# Altium schematic symbol library DiscreteSemiconductors.SchLib: 22 symbols (part 1 of 2)
Pins are listed as number, name and electrical type; pins without a type are passive.

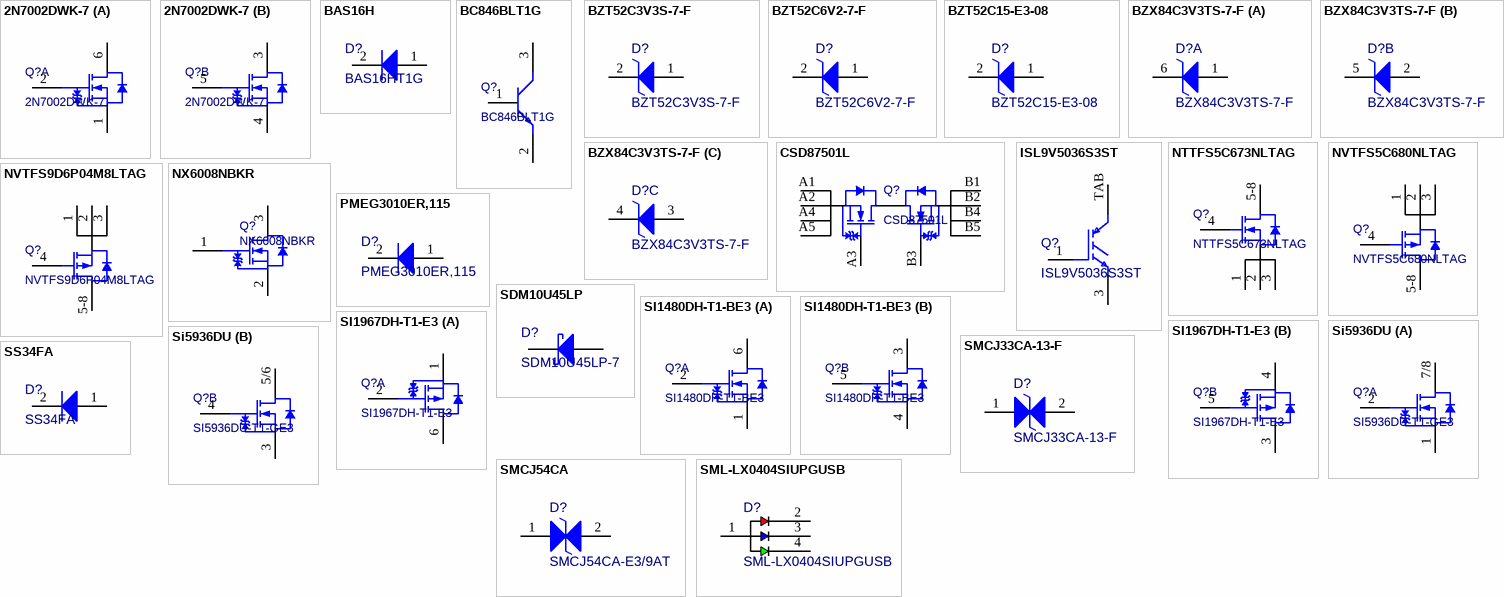
[diagram p0: symbols 2N7002DWK-7 to SS34FA]

## 2N7002DWK-7
designator Q?
MOSFET 2N-CH 60V 0.261A SOT363; Manufacturer: Diodes; Supplier: Digikey; Supplier Part Number: 31-2N7002DWK-7CT-ND; Manufacturer Part Number: 2N7002DWK-7; RoHS: No; Category: Uncategorized; Stock: 2664; Pricing: 1=0,21, 10=0,142, 100=0,0931, 500=0,07452, 1000=0,06584 (USD); Supplier 1: Digikey; Supplier Part Number 1: 31-2N7002DWK-7CT-ND
footprint SOT-363 (6 pin, 2x2.1mm)
part A pins: 1 S1, 2 G1, 6 D1
part B pins: 3 D2, 4 S2, 5 G2

## BAS16H
designator D?, comment BAS16HT1G
Diode, Rectifier, Switching, Vr 75VDC, If 200MA, Pkg SOD-323, Vf 1250MV, Trr 6NS, Cj 2PF; Manufacturer: onsemi; Manufacturer Lifecycle Status: ACTIVE; Breakdown Voltage: 75V; Element Configuration: Single; Forward Voltage: 715mV; Max Forward Surge Current (Ifsm): 500mA; Max Power Dissipation: 200mW; Max Repetitive Reverse Voltage (Vrrm): 85V; Max Reverse Leakage Current: 1µA; Max Reverse Voltage (DC): 100V; Max Surge Current: 600mA; Number of Elements: 1; Polarity: Standard; Supplier 1: DigiKey; Supplier Part Number 1: BAS16HT1GOSCT-ND; Supplier: DigiKey; Supplier Part Number: BAS16HT1GOSCT-ND; Manufacturer Part Number: BAS16HT1G; RoHS: Compliant; Category: Rectifier Diodes; Stock: 518468; Pricing: 1=0,1, 10=0,049, 100=0,0422, 500=0,03042, 1000=0,02655 (USD); Average Rectified Current: 200mA; Value: 2pF; China RoHS: Compliant; Contact Plating: Tin; Current Rating: 200mA; Forward Current: 200mA; Height: 900µm; Lead Free: Lead Free; Length: 1.7mm; Lifecycle Status: Production; Max Operating Temperature: 150°C; Max Output current: 200mA; Min Operating Temperature: -55°C; Mounting Technology: Surface Mount; Pins: 2; Number of Terminals: 2; Output Current: 200mA; Packaging: Tape and Reel; Peak Non-Repetitive Surge Current: 600mA; Peak Reverse Current: 1µA; Power Dissipation: 200mW; Radiation Hardening: No; REACH SVHC: No; Recovery Time: 6ns; Reverse Recovery Time: 6ns; Reverse Standoff Voltage: 85V; Reverse Voltage: 85V; Schedule B: 8541100070, 8541100070|8541100070|8541100070|8541100070|8541100070; Voltage Rating (DC): 75V; Weight: 33mg; Width: 1.25mm; ComponentLink1URL: https://datasheet.octopart.com:443/BAS16HT1G-ON-Semiconductor-datasheet-115937.pdf?src-supplier=element14+APAC; ComponentLink1Description: https://datasheet.octopart.com:443/BAS16HT1G-ON-Semiconductor-datasheet-115937.pdf?src-supplier=element14+APAC; ComponentLink2URL: https://datasheet.octopart.com:443/BAS16HT1G-ON-Semiconductor-datasheet-67293425.pdf?src-supplier=element14+APAC; ComponentLink2Description: https://datasheet.octopart.com:443/BAS16HT1G-ON-Semiconductor-datasheet-67293425.pdf?src-supplier=element14+APAC; ComponentLink3URL: https://datasheet.octopart.com:443/BAS16HT1G-ON-Semiconductor-datasheet-86781274.pdf?src-supplier=element14+APAC; ComponentLink3Description: https://datasheet.octopart.com:443/BAS16HT1G-ON-Semiconductor-datasheet-86781274.pdf?src-supplier=element14+APAC; ComponentLink4URL: https://datasheet.octopart.com:443/BAS16HT1G-onsemi-datasheet-180957826.pdf?src-supplier=IHS; ComponentLink4Description: https://datasheet.octopart.com:443/BAS16HT1G-onsemi-datasheet-180957826.pdf?src-supplier=IHS; ComponentLink5URL: https://datasheet.octopart.com:443/BAS16HT1G-ON-Semiconductor-datasheet-30892817.pdf?src-supplier=IHS; ComponentLink5Description: https://datasheet.octopart.com:443/BAS16HT1G-ON-Semiconductor-datasheet-30892817.pdf?src-supplier=IHS; ComponentLink6URL: https://datasheet.octopart.com:443/BAS16HT1G-ON-Semiconductor-datasheet-33006779.pdf?src-supplier=Upverter; ComponentLink6Description: https://datasheet.octopart.com:443/BAS16HT1G-ON-Semiconductor-datasheet-33006779.pdf?src-supplier=Upverter; ComponentLink7URL: https://datasheet.octopart.com:443/BAS16HT1G-ON-Semiconductor-datasheet-137916682.pdf?src-supplier=onsemi; ComponentLink7Description: https://datasheet.octopart.com:443/BAS16HT1G-ON-Semiconductor-datasheet-137916682.pdf?src-supplier=onsemi; ComponentLink8URL: https://datasheet.octopart.com:443/BAS16HT1G-ON-Semiconductor-datasheet-86688369.pdf?src-supplier=onsemi; ComponentLink8Description: https://datasheet.octopart.com:443/BAS16HT1G-ON-Semiconductor-datasheet-86688369.pdf?src-supplier=onsemi; ComponentLink9URL: https://datasheet.octopart.com:443/BAS16HT1G-onsemi-datasheet-181958668.pdf?src-supplier=Newark; ComponentLink9Description: https://datasheet.octopart.com:443/BAS16HT1G-onsemi-datasheet-181958668.pdf?src-supplier=Newark; ComponentLink10URL: https://datasheet.octopart.com:443/BAS16HT1G-Fairchild-Semiconductor-datasheet-67878755.pdf?src-supplier=Newark; ComponentLink10Description: https://datasheet.octopart.com:443/BAS16HT1G-Fairchild-Semiconductor-datasheet-67878755.pdf?src-supplier=Newark; ComponentLink11URL: https://datasheet.octopart.com:443/BAS16HT1G-Fairchild-Semiconductor-datasheet-67809726.pdf?src-supplier=Newark; ComponentLink11Description: https://datasheet.octopart.com:443/BAS16HT1G-Fairchild-Semiconductor-datasheet-67809726.pdf?src-supplier=Newark; ComponentLink12URL: https://datasheet.octopart.com:443/BAS16HT1G-Fairchild-Semiconductor-datasheet-68558646.pdf?src-supplier=Newark; ComponentLink12Description: https://datasheet.octopart.com:443/BAS16HT1G-Fairchild-Semiconductor-datasheet-68558646.pdf?src-supplier=Newark; ComponentLink13URL: https://datasheet.octopart.com:443/BAS16HT1G-Fairchild-Semiconductor-datasheet-5362264.pdf?src-supplier=Fairchild+Semiconductor; ComponentLink13Description: https://datasheet.octopart.com:443/BAS16HT1G-Fairchild-Semiconductor-datasheet-5362264.pdf?src-supplier=Fairchild+Semiconductor; ComponentLink14URL: https://sigma.octopart.com:443/17344476/technical_drawing/Fairchild-Semiconductor-BAS16HT1G.pdf?src-supplier=Fairchild+Semiconductor; ComponentLink14Description: https://sigma.octopart.com:443/17344476/technical_drawing/Fairchild-Semiconductor-BAS16HT1G.pdf?src-supplier=Fairchild+Semiconductor; ComponentLink15URL: https://datasheet.octopart.com:443/BAS16HT1G-onsemi-datasheet-21771981.pdf?src-supplier=Master+Electronics; ComponentLink15Description: https://datasheet.octopart.com:443/BAS16HT1G-onsemi-datasheet-21771981.pdf?src-supplier=Master+Electronics; ComponentLink16URL: https://datasheet.octopart.com:443/BAS16HT1G-ON-Semiconductor-datasheet-17590349.pdf?src-supplier=TME; ComponentLink16Description: https://datasheet.octopart.com:443/BAS16HT1G-ON-Semiconductor-datasheet-17590349.pdf?src-supplier=TME; ComponentLink17URL: https://datasheet.octopart.com:443/BAS16HT1G-ON-Semiconductor-datasheet-14053657.pdf?src-supplier=iiiC; ComponentLink17Description: https://datasheet.octopart.com:443/BAS16HT1G-ON-Semiconductor-datasheet-14053657.pdf?src-supplier=iiiC; ComponentLink18URL: https://datasheet.octopart.com:443/BAS16HT1G-ON-Semiconductor-datasheet-9788525.pdf?src-supplier=RS+(Formerly+Allied+Electronics); ComponentLink18Description: https://datasheet.octopart.com:443/BAS16HT1G-ON-Semiconductor-datasheet-9788525.pdf?src-supplier=RS+(Formerly+Allied+Electronics); ComponentLink19URL: https://datasheet.octopart.com:443/BAS16HT1G-ON-Semiconductor-datasheet-8443271.pdf?src-supplier=Jameco; ComponentLink19Description: https://datasheet.octopart.com:443/BAS16HT1G-ON-Semiconductor-datasheet-8443271.pdf?src-supplier=Jameco; ComponentLink20URL: https://datasheet.octopart.com:443/BAS16HT1G-Fairchild-Semiconductor-datasheet-68652414.pdf?src-supplier=Farnell; ComponentLink20Description: https://datasheet.octopart.com:443/BAS16HT1G-Fairchild-Semiconductor-datasheet-68652414.pdf?src-supplier=Farnell; ComponentLink21URL: https://datasheet.octopart.com:443/BAS16HT1G-Fairchild-Semiconductor-datasheet-78857374.pdf?src-supplier=Farnell; ComponentLink21Description: https://datasheet.octopart.com:443/BAS16HT1G-Fairchild-Semiconductor-datasheet-78857374.pdf?src-supplier=Farnell; ComponentLink22URL: http://sigma.octopart.com:80/15540786/rohs_certificate/ON-Semiconductor-BAS16HT1G.pdf?src-supplier=Compliance+Statements; ComponentLink22Description: http://sigma.octopart.com:80/15540786/rohs_certificate/ON-Semiconductor-BAS16HT1G.pdf?src-supplier=Compliance+Statements; ComponentLink23URL: http://sigma.octopart.com:80/15674185/materials_sheet/ON-Semiconductor-BAS16HT1G.csv?src-supplier=Compliance+Statements; ComponentLink23Description: http://sigma.octopart.com:80/15674185/materials_sheet/ON-Semiconductor-BAS16HT1G.csv?src-supplier=Compliance+Statements; ComponentLink24URL: http://sigma.octopart.com:80/150603887/rohs_statement/ON-Semiconductor-BAS16HT1G.pdf?src-supplier=Compliance+Statements; ComponentLink24Description: http://sigma.octopart.com:80/150603887/rohs_statement/ON-Semiconductor-BAS16HT1G.pdf?src-supplier=Compliance+Statements; ComponentLink25URL: http://sigma.octopart.com:80/17344474/reach_statement/Fairchild-Semiconductor-BAS16HT1G.pdf?src-supplier=Compliance+Statements; ComponentLink25Description: http://sigma.octopart.com:80/17344474/reach_statement/Fairchild-Semiconductor-BAS16HT1G.pdf?src-supplier=Compliance+Statements; ComponentLink26URL: http://sigma.octopart.com:80/17344475/materials_sheet/Fairchild-Semiconductor-BAS16HT1G.pdf?src-supplier=Compliance+Statements; ComponentLink26Description: http://sigma.octopart.com:80/17344475/materials_sheet/Fairchild-Semiconductor-BAS16HT1G.pdf?src-supplier=Compliance+Statements; ComponentLink27URL: http://sigma.octopart.com:80/33049500/reach_statement/Fairchild-Semiconductor-BAS16HT1G.pdf?src-supplier=Compliance+Statements; ComponentLink27Description: http://sigma.octopart.com:80/33049500/reach_statement/Fairchild-Semiconductor-BAS16HT1G.pdf?src-supplier=Compliance+Statements; ComponentLink28URL: http://sigma.octopart.com:80/33049507/materials_sheet/Fairchild-Semiconductor-BAS16HT1G.pdf?src-supplier=Compliance+Statements; ComponentLink28Description: http://sigma.octopart.com:80/33049507/materials_sheet/Fairchild-Semiconductor-BAS16HT1G.pdf?src-supplier=Compliance+Statements; ComponentLink29URL: http://sigma.octopart.com:80/reach_statement/ON-Semiconductor-company-79.pdf?src-supplier=Compliance+Statements; ComponentLink29Description: http://sigma.octopart.com:80/reach_statement/ON-Semiconductor-company-79.pdf?src-supplier=Compliance+Statements; ComponentLink30URL: http://sigma.octopart.com:80/reach_statement/Fairchild-Semiconductor-company-9.pdf?src-supplier=Compliance+Statements; ComponentLink30Description: http://sigma.octopart.com:80/reach_statement/Fairchild-Semiconductor-company-9.pdf?src-supplier=Compliance+Statements; ComponentLink31URL: http://sigma.octopart.com:80/rohs_statement/Fairchild-Semiconductor-company-10.pdf?src-supplier=Compliance+Statements; ComponentLink31Description: http://sigma.octopart.com:80/rohs_statement/Fairchild-Semiconductor-company-10.pdf?src-supplier=Compliance+Statements; ComponentLink32URL: http://sigma.octopart.com:80/rohs_statement/Fairchild-Semiconductor-company-11.pdf?src-supplier=Compliance+Statements; ComponentLink32Description: http://sigma.octopart.com:80/rohs_statement/Fairchild-Semiconductor-company-11.pdf?src-supplier=Compliance+Statements; ComponentLink33URL: https://octopart.com:443/opatz8j6/c1?t=3sa6m3SxYoge9M9qGb4nmKLqBfrMfXhiJOp9hKZyxrh3ehL_BI6LOToHUMMaKyKket4Z1sj90yfHaTytxDd4kTrDgXQ_hpbHeYPETYjP_WAA8e26rBtBfn1_I3ReRiAJKkCOBeYfrSkepAVHT7WZ6faBb9xXyATk-AGWAiJUyc-olZRBf61e2PglA_o6oH6j0ZhWcjIMQr1OaZAsEemOypn9rSngJhyD2Q95BhY21uejmtdLxB3PfquCAALl-V8d6PzywhadjY_2sOYX1IRBN1ePsZlil2tKA3QQi1fpa_2NXZPSYNF3QM8W_-CjkL6rbjh6IOEZ1PtqSUWglJ_mpLUY0n0_jcKHQN0&src-supplier=Compliance+Statements; ComponentLink33Description: https://octopart.com:443/opatz8j6/c1?t=3sa6m3SxYoge9M9qGb4nmKLqBfrMfXhiJOp9hKZyxrh3ehL_BI6LOToHUMMaKyKket4Z1sj90yfHaTytxDd4kTrDgXQ_hpbHeYPETYjP_WAA8e26rBtBfn1_I3ReRiAJKkCOBeYfrSkepAVHT7WZ6faBb9xXyATk-AGWAiJUyc-olZRBf61e2PglA_o6oH6j0ZhWcjIMQr1OaZAsEemOypn9rSngJhyD2Q95BhY21uejmtdLxB3PfquCAALl-V8d6PzywhadjY_2sOYX1IRBN1ePsZlil2tKA3QQi1fpa_2NXZPSYNF3QM8W_-CjkL6rbjh6IOEZ1PtqSUWglJ_mpLUY0n0_jcKHQN0&src-supplier=Compliance+Statements; ComponentLink34URL: https://octopart.com:443/opatz8j6/c1?t=BeFj0GxZ0-VbTF2PfXHp6AnktMjJ4eXiHVy6Fo2zviSPGKYfBUukSRk8rDGnUJcdwRnP-ck7I8FMZezNYJ_1dK-dO54YBllHyBY0SnmYOKk1p3exRmhljXa6F2Bpgkcpr13sfMJDmDHTvXk40ahuM8IGb89TNn7vkLTl85aZ0H7gci15r64hfA7LHtbGW7rg3VX_V3sXUHsPHwOLj-ZkG6CcHSAMpHRU5QV5habCtdOmhiw0JT4yp_gLtU2Jo7wuRm4gw6v2ip48IG5kBRN8SehbmPIFgmt3ZxmeBnsXKDdBqXiqR7ew8NtlDUgnfFMGU43dhWEbA7nmL_UII0preXOLm51me80stQ&src-supplier=Compliance+Statements; ComponentLink34Description: https://octopart.com:443/opatz8j6/c1?t=BeFj0GxZ0-VbTF2PfXHp6AnktMjJ4eXiHVy6Fo2zviSPGKYfBUukSRk8rDGnUJcdwRnP-ck7I8FMZezNYJ_1dK-dO54YBllHyBY0SnmYOKk1p3exRmhljXa6F2Bpgkcpr13sfMJDmDHTvXk40ahuM8IGb89TNn7vkLTl85aZ0H7gci15r64hfA7LHtbGW7rg3VX_V3sXUHsPHwOLj-ZkG6CcHSAMpHRU5QV5habCtdOmhiw0JT4yp_gLtU2Jo7wuRm4gw6v2ip48IG5kBRN8SehbmPIFgmt3ZxmeBnsXKDdBqXiqR7ew8NtlDUgnfFMGU43dhWEbA7nmL_UII0preXOLm51me80stQ&src-supplier=Compliance+Statements
footprint SOD323 (2.4x1.2mm)
pins: 1, 2

## BC846BLT1G
designator Q?
TRANS NPN 65V 0.1A SOT23-3; Manufacturer: onsemi; Manufacturer Lifecycle Status: ACTIVE; Collector Base Voltage (VCBO): 80V; Collector Emitter Saturation Voltage: 600mV; Current Rating: 100mA; Element Configuration: Single; Emitter Base Voltage (VEBO): 6V; Frequency: 100MHz; hFE Min: 200; Max Power Dissipation: 300mW; Noise Figure: 10dB; Number of Elements: 1; Type: General Purpose; Supplier 1: DigiKey; Supplier Part Number 1: BC846BLT1GOSCT-ND; Supplier: DigiKey; Supplier Part Number: BC846BLT1GOSCT-ND; Manufacturer Part Number: BC846BLT1G; RoHS: Compliant; Category: BJTs; Stock: 628122; Pricing: 1=0,13, 10=0,081, 100=0,0496, 500=0,03586, 1000=0,03138 (USD); Case/Package: SOT-23-3; China RoHS: Compliant; Collector Emitter Breakdown Voltage: 65V; Collector Emitter Voltage (VCEO): 65V; Contact Plating: Tin; Gain Bandwidth Product: 100MHz; Halogen Free: Halogen Free; Height: 940µm; Lead Free: Lead Free; Length: 2.9mm; Lifecycle Status: Production; Max Breakdown Voltage: 65V; Max Collector Current: 100mA; Clock Frequency: 100MHz; Max Operating Temperature: 150°C; Min Operating Temperature: -55°C; Pins: 3; Number of Terminals: 3; Packaging: Tape and Reel; Polarity: NPN; Power Dissipation: 300mW; Radiation Hardening: No; REACH SVHC: Yes; Schedule B: 8541210080, 8541210080|8541210080|8541210080|8541210080|8541210080|8541210080|8541210080|8541210080|8541210080|8541210080|8541210080|8541210080|8541210080|8541210080|8541210080|8541210080|8541210080|8541210080|8541210080|8541210080|8541210080|8541210080|8541210080|85; Transition Frequency: 100MHz; Voltage Rating (DC): 65V; Width: 1.3mm; ComponentLink1URL: https://datasheet.octopart.com:443/BC846BLT1G-onsemi-datasheet-180957975.pdf?src-supplier=IHS; ComponentLink1Description: https://datasheet.octopart.com:443/BC846BLT1G-onsemi-datasheet-180957975.pdf?src-supplier=IHS; ComponentLink2URL: https://datasheet.octopart.com:443/BC846BLT1G-ON-Semiconductor-datasheet-10854521.pdf?src-supplier=element14+APAC; ComponentLink2Description: https://datasheet.octopart.com:443/BC846BLT1G-ON-Semiconductor-datasheet-10854521.pdf?src-supplier=element14+APAC; ComponentLink3URL: https://datasheet.octopart.com:443/BC846BLT1G-ON-Semiconductor-datasheet-41194337.pdf?src-supplier=element14+APAC; ComponentLink3Description: https://datasheet.octopart.com:443/BC846BLT1G-ON-Semiconductor-datasheet-41194337.pdf?src-supplier=element14+APAC; ComponentLink4URL: https://datasheet.octopart.com:443/BC846BLT1G-ON-Semiconductor-datasheet-9893987.pdf?src-supplier=element14+APAC; ComponentLink4Description: https://datasheet.octopart.com:443/BC846BLT1G-ON-Semiconductor-datasheet-9893987.pdf?src-supplier=element14+APAC; ComponentLink5URL: https://datasheet.octopart.com:443/BC846BLT1G-ON-Semiconductor-datasheet-8468497.pdf?src-supplier=onsemi; ComponentLink5Description: https://datasheet.octopart.com:443/BC846BLT1G-ON-Semiconductor-datasheet-8468497.pdf?src-supplier=onsemi; ComponentLink6URL: https://datasheet.octopart.com:443/BC846BLT1G-ON-Semiconductor-datasheet-8324740.pdf?src-supplier=onsemi; ComponentLink6Description: https://datasheet.octopart.com:443/BC846BLT1G-ON-Semiconductor-datasheet-8324740.pdf?src-supplier=onsemi; ComponentLink7URL: https://datasheet.octopart.com:443/BC846BLT1G-ON-Semiconductor-datasheet-115882.pdf?src-supplier=onsemi; ComponentLink7Description: https://datasheet.octopart.com:443/BC846BLT1G-ON-Semiconductor-datasheet-115882.pdf?src-supplier=onsemi; ComponentLink8URL: https://datasheet.octopart.com:443/BC846BLT1G-ON-Semiconductor-datasheet-139009607.pdf?src-supplier=onsemi; ComponentLink8Description: https://datasheet.octopart.com:443/BC846BLT1G-ON-Semiconductor-datasheet-139009607.pdf?src-supplier=onsemi; ComponentLink9URL: https://datasheet.octopart.com:443/BC846BLT1G-ON-Semiconductor-datasheet-141916637.pdf?src-supplier=Upverter; ComponentLink9Description: https://datasheet.octopart.com:443/BC846BLT1G-ON-Semiconductor-datasheet-141916637.pdf?src-supplier=Upverter; ComponentLink10URL: https://datasheet.octopart.com:443/BC846BLT1G-onsemi-datasheet-175416532.pdf?src-supplier=Newark; ComponentLink10Description: https://datasheet.octopart.com:443/BC846BLT1G-onsemi-datasheet-175416532.pdf?src-supplier=Newark; ComponentLink11URL: https://datasheet.octopart.com:443/BC846BLT1G-onsemi-datasheet-157205205.pdf?src-supplier=TME; ComponentLink11Description: https://datasheet.octopart.com:443/BC846BLT1G-onsemi-datasheet-157205205.pdf?src-supplier=TME; ComponentLink12URL: https://datasheet.octopart.com:443/BC846BLT1G-ON-Semiconductor-datasheet-78758852.pdf?src-supplier=TME; ComponentLink12Description: https://datasheet.octopart.com:443/BC846BLT1G-ON-Semiconductor-datasheet-78758852.pdf?src-supplier=TME; ComponentLink13URL: https://datasheet.octopart.com:443/BC846BLT1G-ON-Semiconductor-datasheet-14064326.pdf?src-supplier=iiiC; ComponentLink13Description: https://datasheet.octopart.com:443/BC846BLT1G-ON-Semiconductor-datasheet-14064326.pdf?src-supplier=iiiC; ComponentLink14URL: https://datasheet.octopart.com:443/BC846BLT1G-ON-Semiconductor-datasheet-7543137.pdf?src-supplier=Jameco; ComponentLink14Description: https://datasheet.octopart.com:443/BC846BLT1G-ON-Semiconductor-datasheet-7543137.pdf?src-supplier=Jameco; ComponentLink15URL: https://datasheet.octopart.com:443/BC846BLT1G-ON-Semiconductor-datasheet-9755513.pdf?src-supplier=RS+(Formerly+Allied+Electronics); ComponentLink15Description: https://datasheet.octopart.com:443/BC846BLT1G-ON-Semiconductor-datasheet-9755513.pdf?src-supplier=RS+(Formerly+Allied+Electronics); ComponentLink16URL: https://datasheet.octopart.com:443/BC846BLT1G-ON-Semiconductor-datasheet-5339073.pdf?src-supplier=Farnell; ComponentLink16Description: https://datasheet.octopart.com:443/BC846BLT1G-ON-Semiconductor-datasheet-5339073.pdf?src-supplier=Farnell; ComponentLink17URL: https://datasheet.octopart.com:443/BC846BLT1G-ON-Semiconductor-datasheet-7627526.pdf?src-supplier=Farnell; ComponentLink17Description: https://datasheet.octopart.com:443/BC846BLT1G-ON-Semiconductor-datasheet-7627526.pdf?src-supplier=Farnell; ComponentLink18URL: http://sigma.octopart.com:80/15540786/rohs_certificate/ON-Semiconductor-BC846BLT1G.pdf?src-supplier=Compliance+Statements; ComponentLink18Description: http://sigma.octopart.com:80/15540786/rohs_certificate/ON-Semiconductor-BC846BLT1G.pdf?src-supplier=Compliance+Statements; ComponentLink19URL: http://sigma.octopart.com:80/15674313/materials_sheet/ON-Semiconductor-BC846BLT1G.csv?src-supplier=Compliance+Statements; ComponentLink19Description: http://sigma.octopart.com:80/15674313/materials_sheet/ON-Semiconductor-BC846BLT1G.csv?src-supplier=Compliance+Statements; ComponentLink20URL: http://sigma.octopart.com:80/150605461/rohs_statement/ON-Semiconductor-BC846BLT1G.pdf?src-supplier=Compliance+Statements; ComponentLink20Description: http://sigma.octopart.com:80/150605461/rohs_statement/ON-Semiconductor-BC846BLT1G.pdf?src-supplier=Compliance+Statements; ComponentLink21URL: http://sigma.octopart.com:80/reach_statement/ON-Semiconductor-company-79.pdf?src-supplier=Compliance+Statements; ComponentLink21Description: http://sigma.octopart.com:80/reach_statement/ON-Semiconductor-company-79.pdf?src-supplier=Compliance+Statements; ComponentLink22URL: https://octopart.com:443/opatz8j6/c1?t=8p3-awRhLSs3_9tZ2d1xgJPJObJD5CqLfZpDE2QQITUx47ceSoJEB2qxIh36HEQGDjyAaXBMlCInLB9wXlruKAzqfndwlQ6M0x5pby2t3A8QBiEnrEz9EcARUoGgtPZ0ZEp3oHJjmHJ68cyhIZW9NOtUpRpck2BEj3tN1YuBfnv7j_kt0Vj0ZxwRLAxw5eghnVqi2NNVqxl9N9m8Gl5DYoQiVm1LuNJs-TKSKSd4-QEg-RNy_LMP1UDyGY_ubwKQ-S48A0nyNZ9VLXAmPMU4C-hujDbWUybxAQmSui7ds-qfxvAH8__CUVFmJSbohIwvejS__vKKgOg7vNktJI2-JuVKLufpfdkYBKOCDQ&src-supplier=Compliance+Statements; ComponentLink22Description: https://octopart.com:443/opatz8j6/c1?t=8p3-awRhLSs3_9tZ2d1xgJPJObJD5CqLfZpDE2QQITUx47ceSoJEB2qxIh36HEQGDjyAaXBMlCInLB9wXlruKAzqfndwlQ6M0x5pby2t3A8QBiEnrEz9EcARUoGgtPZ0ZEp3oHJjmHJ68cyhIZW9NOtUpRpck2BEj3tN1YuBfnv7j_kt0Vj0ZxwRLAxw5eghnVqi2NNVqxl9N9m8Gl5DYoQiVm1LuNJs-TKSKSd4-QEg-RNy_LMP1UDyGY_ubwKQ-S48A0nyNZ9VLXAmPMU4C-hujDbWUybxAQmSui7ds-qfxvAH8__CUVFmJSbohIwvejS__vKKgOg7vNktJI2-JuVKLufpfdkYBKOCDQ&src-supplier=Compliance+Statements; ComponentLink23URL: https://octopart.com:443/opatz8j6/c1?t=cB04AA5vxQghmLuxYqHqKJ3tSwxwC6p0AbrDBwJY0Oqnpm-uZ1rCJD3bLbId1FP9PJpWC3DwDI6UN-pCoWwBh674lgWQh17YaQb7DIFEzHcGOnXUiDMus7-GEpvTgW9eOGgxmj3alpUpI8aDAN0hAtiy3U_3dCa8jpN7fmeYK36IWiZUxqr8PqIxAAWAuBIUuVrxEZmY9eee4J_0WL-LRipKr5_7w2uPjnJrAY09366OI6JzeIGhxSSsxlpvz0Pht_Iw1dySjZjth4Oe6A-FESXbp6_4QEmdB9MNoIHiPfAOWxQ9KNClAzNmlhsMccWjYwzcX03Rq2EdJ6b65sxctD4NT4Rn3-Nhb1Wg&src-supplier=Compliance+Statements; ComponentLink23Description: https://octopart.com:443/opatz8j6/c1?t=cB04AA5vxQghmLuxYqHqKJ3tSwxwC6p0AbrDBwJY0Oqnpm-uZ1rCJD3bLbId1FP9PJpWC3DwDI6UN-pCoWwBh674lgWQh17YaQb7DIFEzHcGOnXUiDMus7-GEpvTgW9eOGgxmj3alpUpI8aDAN0hAtiy3U_3dCa8jpN7fmeYK36IWiZUxqr8PqIxAAWAuBIUuVrxEZmY9eee4J_0WL-LRipKr5_7w2uPjnJrAY09366OI6JzeIGhxSSsxlpvz0Pht_Iw1dySjZjth4Oe6A-FESXbp6_4QEmdB9MNoIHiPfAOWxQ9KNClAzNmlhsMccWjYwzcX03Rq2EdJ6b65sxctD4NT4Rn3-Nhb1Wg&src-supplier=Compliance+Statements
footprint SOT-23 (SOT23, 3-Leads, Body 2.92x1.3mm, Pitch 0.95mm)
pins: 1 BASE_TR2, 2 EMITTER_TR2, 3 COLLECTOR_TR2

## BZT52C3V3S-7-F
designator D?
DIODE ZENER 3.3V 200MW SOD323; Manufacturer: Diodes; Forward Current: 10mA; Reverse Voltage: 1V; Supplier: Farnell; Supplier Part Number: 2077918; Manufacturer Part Number: BZT52C3V3S-7-F; RoHS: Yes; Category: Zener Diodes; Stock: 5765; ComponentLink1URL: https://datasheet.ciiva.com/15142/getdatasheetpartid-61179-15142297.pdf?src-supplier=Verical; ComponentLink1Description: https://datasheet.ciiva.com/15142/getdatasheetpartid-61179-15142297.pdf?src-supplier=Verical; ComponentLink2URL: https://datasheet.ciiva.com/27052/1539606-27052379.pdf?src-supplier=Jameco; ComponentLink2Description: https://datasheet.ciiva.com/27052/1539606-27052379.pdf?src-supplier=Jameco; Supplier 1: Digikey; Supplier Part Number 1: BZT52C3V3S-FDICT-ND
footprint SOD-123 (SOD, 2-Leads, Body 2.69x1.6mm)
pins: 1, 2

## BZT52C6V2-7-F
designator D?
DIODE ZENER 6.2V 500MW SOD123; Manufacturer: Diodes Inc.; Element Configuration: Single; ESD Protection: No; Forward Current: 10mA; Forward Voltage: 900mV; Impedance: 10Ω; Max Junction Temperature (Tj): 150°C; Max Power Dissipation: 370mW; Max Reverse Leakage Current: 3µA; Number of Elements: 1; Output Current: 40mA; Polarity: Unidirectional; Reverse Standoff Voltage: 4V; Test Current: 5mA; Tolerance: 6%; Voltage Tolerance: 6.45%; Supplier: DigiKey; Supplier Part Number: BZT52C6V2-FDICT-ND; Manufacturer Part Number: BZT52C6V2-7-F; RoHS: Compliant; Category: Zener Diodes; Stock: 127496; Pricing: 1=0,12, 10=0,085, 100=0,041, 500=0,04, 1000=0,039 (USD); China RoHS: Compliant; Contact Plating: Tin; Height: 1.45mm; Lead Free: Lead Free; Length: 2.85mm; Lifecycle Status: Production; Max Operating Temperature: 150°C; Min Operating Temperature: -65°C; Mounting Technology: Surface Mount; Pins: 2; Number of Terminals: 2; Packaging: Cut Tape; Peak Reverse Current: 3µA; Power Dissipation: 370mW; Power Rating: 500mW; Radiation Hardening: No; REACH SVHC: Yes; Reference Voltage: 6.2V; Reverse Voltage: 4V; Schedule B: 8541100050, 8541100050|8541100050|8541100050|8541100050|8541100050|8541100050|8541100050|8541100050|8541100050|8541100050|8541100050|8541100050|8541100050|8541100050|8541100050|8541100050|8541100050|8541100050|8541100050|8541100050|8541100050|8541100050, 8541100050|8541100050|8541100050|8541100050|8541100050|8541100050|8541100050|8541100050|8541100050|8541100050|8541100050|8541100050|8541100050|8541100050|8541100050|8541100050|8541100050|8541100050|8541100050|8541100050|8541100050|8541100050|8541100050, 8541100050|8541100050|8541100050|8541100050|8541100050|8541100050|8541100050|8541100050|8541100050|8541100050|8541100050|8541100050|8541100050|8541100050|8541100050|8541100050|8541100050|8541100050|8541100050|8541100050|8541100050|8541100050|8541100050|85; Termination: SMD/SMT; Voltage Rating (DC): 6.2V; Weight: 10.007382mg; Width: 1.7mm; Working Voltage: 6.2V; Zener Current: 5mA; Zener Voltage: 6.2V; ComponentLink1URL: https://datasheet.octopart.com:443/BZT52C6V2-7-F-Diodes-Inc.-datasheet-101585693.pdf?src-supplier=IHS; ComponentLink1Description: https://datasheet.octopart.com:443/BZT52C6V2-7-F-Diodes-Inc.-datasheet-101585693.pdf?src-supplier=IHS; ComponentLink2URL: https://sigma.octopart.com:443/138895985/technical_drawing/Diodes-Inc.-BZT52C6V2-7-F.pdf?src-supplier=Diodes+Inc+SCT; ComponentLink2Description: https://sigma.octopart.com:443/138895985/technical_drawing/Diodes-Inc.-BZT52C6V2-7-F.pdf?src-supplier=Diodes+Inc+SCT; ComponentLink3URL: https://datasheet.octopart.com:443/BZT52C6V2-7-F-Diodes-Inc.-datasheet-12513818.pdf?src-supplier=TME; ComponentLink3Description: https://datasheet.octopart.com:443/BZT52C6V2-7-F-Diodes-Inc.-datasheet-12513818.pdf?src-supplier=TME; ComponentLink4URL: https://datasheet.octopart.com/BZT52C6V2-7-F-Diodes-Inc.-datasheet-10839781.pdf; ComponentLink4Description: https://datasheet.octopart.com/BZT52C6V2-7-F-Diodes-Inc.-datasheet-10839781.pdf; ComponentLink5URL: https://datasheet.octopart.com/BZT52C6V2-7-F-Diodes-Inc.-datasheet-10941054.pdf; ComponentLink5Description: https://datasheet.octopart.com/BZT52C6V2-7-F-Diodes-Inc.-datasheet-10941054.pdf; ComponentLink6URL: https://datasheet.octopart.com/BZT52C6V2-7-F-Diodes-Inc.-datasheet-10405015.pdf; ComponentLink6Description: https://datasheet.octopart.com/BZT52C6V2-7-F-Diodes-Inc.-datasheet-10405015.pdf; ComponentLink7URL: https://datasheet.octopart.com/BZT52C6V2-7-F-Diodes-Inc.-datasheet-5318325.pdf; ComponentLink7Description: https://datasheet.octopart.com/BZT52C6V2-7-F-Diodes-Inc.-datasheet-5318325.pdf; ComponentLink8URL: https://datasheet.octopart.com:443/BZT52C6V2-7-F-Diodes-Inc.-datasheet-14050928.pdf?src-supplier=iiiC; ComponentLink8Description: https://datasheet.octopart.com:443/BZT52C6V2-7-F-Diodes-Inc.-datasheet-14050928.pdf?src-supplier=iiiC; ComponentLink9URL: https://datasheet.octopart.com:443/BZT52C6V2-7-F-Diodes-Inc.-datasheet-123517.pdf?src-supplier=DigiKey; ComponentLink9Description: https://datasheet.octopart.com:443/BZT52C6V2-7-F-Diodes-Inc.-datasheet-123517.pdf?src-supplier=DigiKey; ComponentLink10URL: https://datasheet.octopart.com:443/BZT52C6V2-7-F-Diodes-Inc.-datasheet-1309.pdf?src-supplier=Mouser; ComponentLink10Description: https://datasheet.octopart.com:443/BZT52C6V2-7-F-Diodes-Inc.-datasheet-1309.pdf?src-supplier=Mouser; ComponentLink11URL: http://sigma.octopart.com:80/15616906/materials_sheet/Diodes-Inc.-BZT52C6V2-7-F.pdf?src-supplier=Compliance+Statements; ComponentLink11Description: http://sigma.octopart.com:80/15616906/materials_sheet/Diodes-Inc.-BZT52C6V2-7-F.pdf?src-supplier=Compliance+Statements; Supplier 1: DigiKey; Supplier Part Number 1: BZT52C6V2-FDICT-ND
footprint SOD-123 (SOD, 2-Leads, Body 2.69x1.6mm)
pins: 1, 2

## BZT52C15-E3-08
designator D?
DIODE ZENER 15V 410MW SOD123; Manufacturer: Vishay; Supplier: Digikey; Supplier Part Number: BZT52C15-E3-08GICT-ND; Manufacturer Part Number: BZT52C15-E3-08; RoHS: Yes; Category: Zener Diodes; Stock: 18922; Pricing: 1=0,15, 10=0,104, 100=0,047, 500=0,0465, 1000=0,046 (USD); ComponentLink1URL: http://www.mouser.com/ds/2/427/bzt52-106265.pdf?src-supplier=Mouser; ComponentLink1Description: http://www.mouser.com/ds/2/427/bzt52-106265.pdf?src-supplier=Mouser; ComponentLink2URL: http://www.farnell.com/datasheets/2046168.pdf?src-supplier=Farnell; ComponentLink2Description: http://www.farnell.com/datasheets/2046168.pdf?src-supplier=Farnell; ComponentLink3URL: http://www.vishay.com/docs/85760/bzt52.pdf?src-supplier=Digikey; ComponentLink3Description: http://www.vishay.com/docs/85760/bzt52.pdf?src-supplier=Digikey; ComponentLink4URL: https://www.vishay.com/docs/85760/bzt52.pdf?src-supplier=Digikey; ComponentLink4Description: https://www.vishay.com/docs/85760/bzt52.pdf?src-supplier=Digikey; ComponentLink5URL: http://www.vishay.com/docs/85760/bzt52.pdf?src-supplier=Avnet; ComponentLink5Description: http://www.vishay.com/docs/85760/bzt52.pdf?src-supplier=Avnet; ComponentLink6URL: http://www.farnell.com/datasheets/2046168.pdf?src-supplier=Element14; ComponentLink6Description: http://www.farnell.com/datasheets/2046168.pdf?src-supplier=Element14; ComponentLink7URL: https://datasheet.octopart.com/BZT52C15-E3-08-Vishay-datasheet-32036674.pdf?src-supplier=Newark; ComponentLink7Description: https://datasheet.octopart.com/BZT52C15-E3-08-Vishay-datasheet-32036674.pdf?src-supplier=Newark; ComponentLink8URL: http://www.farnell.com/datasheets/1852933.pdf?src-supplier=Newark; ComponentLink8Description: http://www.farnell.com/datasheets/1852933.pdf?src-supplier=Newark; Supplier 1: Digikey; Supplier Part Number 1: BZT52C15-E3-08GICT-ND
footprint SOD-123 (SOD, 2-Leads, Body 2.69x1.6mm)
pins: 1, 2

## BZX84C3V3TS-7-F
designator D?
DIODE ZENER ARRAY 3.3V SOT-363; Manufacturer: Diodes Inc.; ESD Protection: No; Forward Voltage: 900mV; Impedance: 95Ω; Max Power Dissipation: 200mW; Max Reverse Leakage Current: 5µA; Number of Elements: 3; Polarity: Unidirectional; Reverse Standoff Voltage: 1V; Test Current: 5mA; Tolerance: 6%; Voltage Tolerance: 6.06%; Supplier 1: DigiKey; Supplier Part Number 1: 31-BZX84C3V3TS-7-FCT-ND; Supplier: DigiKey; Supplier Part Number: 31-BZX84C3V3TS-7-FCT-ND; Manufacturer Part Number: BZX84C3V3TS-7-F; RoHS: Compliant; Category: Zener Diodes; Stock: 2827; Pricing: 1=0,31, 10=0,213, 100=0,099 (USD); Case/Package: SOT-363; China RoHS: Compliant; Contact Plating: Tin; Height: 1mm; Length: 2.2mm; Lifecycle Status: Production; Max Operating Temperature: 150°C; Min Operating Temperature: -65°C; Mounting Technology: Surface Mount; Pins: 6; Number of Terminals: 6; Packaging: Tape & Reel; Peak Reverse Current: 5µA; Power Dissipation: 200mW; Power Rating: 200mW; REACH SVHC: Yes; Reference Voltage: 3.3V; Weight: 6.010099mg; Width: 2.2mm; Zener Current: 5mA; Zener Voltage: 3.3V; ComponentLink1URL: https://datasheet.octopart.com:443/BZX84C3V3TS-7-F-Diodes-Inc.-datasheet-160640132.pdf?src-supplier=IHS; ComponentLink1Description: https://datasheet.octopart.com:443/BZX84C3V3TS-7-F-Diodes-Inc.-datasheet-160640132.pdf?src-supplier=IHS; ComponentLink2URL: https://datasheet.octopart.com:443/BZX84C3V3TS-7-F-Diodes-Inc.-datasheet-11551317.pdf?src-supplier=Diodes+Inc+SCT; ComponentLink2Description: https://datasheet.octopart.com:443/BZX84C3V3TS-7-F-Diodes-Inc.-datasheet-11551317.pdf?src-supplier=Diodes+Inc+SCT; ComponentLink3URL: https://sigma.octopart.com:443/138865995/technical_drawing/Diodes-Inc.-BZX84C3V3TS-7-F.pdf?src-supplier=Diodes+Inc+SCT; ComponentLink3Description: https://sigma.octopart.com:443/138865995/technical_drawing/Diodes-Inc.-BZX84C3V3TS-7-F.pdf?src-supplier=Diodes+Inc+SCT; ComponentLink4URL: http://sigma.octopart.com:80/15616913/materials_sheet/Diodes-Inc.-BZX84C3V3TS-7-F.pdf?src-supplier=Compliance+Statements; ComponentLink4Description: http://sigma.octopart.com:80/15616913/materials_sheet/Diodes-Inc.-BZX84C3V3TS-7-F.pdf?src-supplier=Compliance+Statements
footprint SOT-363 (6 pin, 2x2.1mm)
part A pins: 1 A1, 6 C1
part B pins: 2 A2, 5 C2
part C pins: 3 A3, 4 C3

## CSD87501L
designator Q?
30-V, N channel NexFET™ power MOSFET, dual common drain LGA, 5.5 mOhm, gate ESD protection 10-PICOSTAR; Manufacturer: Texas Instruments; Manufacturer Lifecycle Status: ACTIVE; Continuous Drain Current (ID): 14A; Drain to Source Resistance: 6.6mΩ; Drain to Source Voltage (Vdss): 30V; Fall Time: 712ns; Gate to Source Voltage (Vgs): 20V; Max Power Dissipation: 2.5W; Number of Channels: 2; Rise Time: 260ns; Turn-Off Delay Time: 709ns; Turn-On Delay Time: 164ns; Supplier 1: DigiKey; Supplier Part Number 1: 296-40013-1-ND; Supplier: DigiKey; Supplier Part Number: 296-40013-1-ND; Manufacturer Part Number: CSD87501L; RoHS: Compliant; Category: MOSFETs; Stock: 6615; Pricing: 1=0,81, 10=0,581, 25=0,5224, 100=0,4584, 250=0,42784, 500=0,40944, 1000=0,3943 (USD); Case/Package: LGA; Height: 220µm; Lead Free: Lead Free; Length: 3.37mm; Lifecycle Status: Production; Max Operating Temperature: 150°C; Min Operating Temperature: -55°C; Mounting Technology: Surface Mount; Pins: 10; Packaging: Tape & Reel (TR); Thickness: 200µm; Width: 1.47mm; ComponentLink1URL: https://datasheet.octopart.com:443/CSD87501L-Texas-Instruments-datasheet-41215293.pdf?src-supplier=Texas+Instruments; ComponentLink1Description: https://datasheet.octopart.com:443/CSD87501L-Texas-Instruments-datasheet-41215293.pdf?src-supplier=Texas+Instruments; ComponentLink2URL: https://octopart.com:443/opatz8j6/c1?t=_RedG_TPcN_0GczmU68-P37L9Zvpt3NS3kx6MiuHa2BSpFJce8KxlJZWCAx0W6d-iC935YQ1tgzZp-8X-gshII2s34GfhUg3BX-XxpFR4CM_VzAfHprzZV-2qMCf6_JfQCQqUELWsoWukakZgfd_5ce4_akaR8RCXxat2NNZjlpVevOWzoBaWp4U6NQK9_cOm5QeiChx_lm8OCQLYVuwX7Mk5PhsTLwXlxyNZ1IxIBlAXyq8cFQoZF4KteL0qQGq4eo34I9YXMr8GhXgkSj6zn_02x7uiVxWKHxqYWaiNryMrdhLYxVERUL7k6ilo1ooPJEpbt6XeUStLa2EIL9AdP1AWipqkYuULgE6f0lNTYI2JKpaKNHtbCIo6fA_wClksbCCH3yPvQ&src-supplier=Texas+Instruments; ComponentLink2Description: https://octopart.com:443/opatz8j6/c1?t=_RedG_TPcN_0GczmU68-P37L9Zvpt3NS3kx6MiuHa2BSpFJce8KxlJZWCAx0W6d-iC935YQ1tgzZp-8X-gshII2s34GfhUg3BX-XxpFR4CM_VzAfHprzZV-2qMCf6_JfQCQqUELWsoWukakZgfd_5ce4_akaR8RCXxat2NNZjlpVevOWzoBaWp4U6NQK9_cOm5QeiChx_lm8OCQLYVuwX7Mk5PhsTLwXlxyNZ1IxIBlAXyq8cFQoZF4KteL0qQGq4eo34I9YXMr8GhXgkSj6zn_02x7uiVxWKHxqYWaiNryMrdhLYxVERUL7k6ilo1ooPJEpbt6XeUStLa2EIL9AdP1AWipqkYuULgE6f0lNTYI2JKpaKNHtbCIo6fA_wClksbCCH3yPvQ&src-supplier=Texas+Instruments; ComponentLink3URL: https://datasheet.octopart.com:443/CSD87501L-Texas-Instruments-datasheet-36993143.pdf?src-supplier=Texas+Instruments; ComponentLink3Description: https://datasheet.octopart.com:443/CSD87501L-Texas-Instruments-datasheet-36993143.pdf?src-supplier=Texas+Instruments; ComponentLink4URL: https://datasheet.octopart.com:443/CSD87501L-Texas-Instruments-datasheet-163657973.pdf?src-supplier=Augswan; ComponentLink4Description: https://datasheet.octopart.com:443/CSD87501L-Texas-Instruments-datasheet-163657973.pdf?src-supplier=Augswan; ComponentLink5URL: http://sigma.octopart.com:80/conflict_mineral_statement/Texas-Instruments-company-63.pdf?src-supplier=Compliance+Statements; ComponentLink5Description: http://sigma.octopart.com:80/conflict_mineral_statement/Texas-Instruments-company-63.pdf?src-supplier=Compliance+Statements; ComponentLink6URL: http://sigma.octopart.com:80/reach_statement/Texas-Instruments-company-64.pdf?src-supplier=Compliance+Statements; ComponentLink6Description: http://sigma.octopart.com:80/reach_statement/Texas-Instruments-company-64.pdf?src-supplier=Compliance+Statements
footprint SOT-363 (6 pin, 2x2.1mm)
pins: A1 S1, A2 S1, A3 G1, A4 S1, A5 S1, B1 S2, B2 S2, B3 G2, B4 S2, B5 S2

## ISL9V5036S3ST
designator Q?
IGBT 390V 46A 250W TO263AB; Manufacturer: ON Semiconductor / Fairchild; Collector Emitter Voltage (VCEO): 1.6V; Collector Emitter Saturation Voltage: 1.17V; Element Configuration: Single; Voltage Rating (DC): 360V; Rise Time: 2.1us; Supplier 1: Digi-Key; Manufacturer Part Number: ISL9V5036S3ST; RoHS: Yes; Category: IGBTs; Pricing 1: 1=3.01000, 10=2.53000, 25=2.38800, 100=2.04690 (USD); Mount: Surface Mount; Case/Package: TO-263-3; Number of Pins: 3; Weight: 1.31247g; Min Operating Temperature: -40°C; Max Operating Temperature: 175°C; Packaging: Tape and Reel; Package Quantity: 1; Max Collector Current: 46A; Max Power Dissipation: 250W; Collector Emitter Breakdown Voltage: 390V; Max Breakdown Voltage: 390V; Power Dissipation: 250W; Current Rating: 46A; Clamping Voltage: 360V; Length: 10.67mm; Width: 9.65mm; Height: 4.83mm; Radiation Hardening: No; RoHS Compliant: Yes; REACH SVHC: No SVHC; Lead Free: Lead Free; ComponentLink1URL: https://datasheet.ciiva.com/960/isl9v5036s3-960528.pdf?src-supplier=Digi-Key; ComponentLink1Description: https://datasheet.ciiva.com/960/isl9v5036s3-960528.pdf?src-supplier=Digi-Key; ComponentLink2URL: https://datasheet.ciiva.com/1187/1732057-1187378.pdf?src-supplier=Element14; ComponentLink2Description: https://datasheet.ciiva.com/1187/1732057-1187378.pdf?src-supplier=Element14; ComponentLink3URL: https://datasheet.ciiva.com/4896/isl9v5036s3st-189166-4896614.pdf?src-supplier=Mouser; ComponentLink3Description: https://datasheet.ciiva.com/4896/isl9v5036s3st-189166-4896614.pdf?src-supplier=Mouser; ComponentLink4URL: https://datasheet.ciiva.com/960/isl9v5036s3-960529.pdf?src-supplier=Digi-Key; ComponentLink4Description: https://datasheet.ciiva.com/960/isl9v5036s3-960529.pdf?src-supplier=Digi-Key; ComponentLink5URL: https://datasheet.ciiva.com/3051/isl9v5036s3-3051528.pdf?src-supplier=Avnet; ComponentLink5Description: https://datasheet.ciiva.com/3051/isl9v5036s3-3051528.pdf?src-supplier=Avnet; ComponentLink6URL: https://datasheet.ciiva.com/960/isl9v5036s3-960527.pdf?src-supplier=Digi-Key; ComponentLink6Description: https://datasheet.ciiva.com/960/isl9v5036s3-960527.pdf?src-supplier=Digi-Key; Supplier Part Number 1: ISL9V5036S3STCT-ND
footprint TO-263-3 (TO-263-3, D²Pak (2 Leads + Tab), TO-263AB)
pins: 1 G, 3 E, TAB C_(TAB)

## NTTFS5C673NLTAG
designator Q?
MOSFET N-CH 60V 13A/50A 8WDFN; Manufacturer: ON Semiconductor; Continuous Drain Current (ID): 50A; Rds On Max: 9.3mR; Input Capacitance: 880pF; Max Power Dissipation: 46W; Threshold Voltage: 2V; Supplier: Digikey; Supplier Part Number: NTTFS5C673NLTAGOSCT-ND; Manufacturer Part Number: NTTFS5C673NLTAG; RoHS: Yes; Category: MOSFETs; Stock: 1292; Pricing: 1=0,95, 10=0,574, 25=0,4752, 100=0,3638, 250=0,309, 500=0,27528 (USD); Mounting Technology: Surface Mount; Pins: 8; Min Operating Temperature: -55°C; Max Operating Temperature: 175°C; Packaging: Cut Tape; Drain to Source Voltage (Vdss): 60V; Series: -; Reach SVHC Compliant: No; Lead Free: Lead Free; RoHS Compliant: Yes; ComponentLink1URL: http://www.mouser.com/ds/2/308/NTTFS5C673NL-D-931494.pdf?src-supplier=Mouser; ComponentLink1Description: http://www.mouser.com/ds/2/308/NTTFS5C673NL-D-931494.pdf?src-supplier=Mouser; ComponentLink2URL: http://www.onsemi.com/pub/Collateral/NTTFS5C673NL-D.PDF?src-supplier=Digikey; ComponentLink2Description: http://www.onsemi.com/pub/Collateral/NTTFS5C673NL-D.PDF?src-supplier=Digikey; ComponentLink3URL: http://www.farnell.com/datasheets/2053000.pdf?src-supplier=Element14; ComponentLink3Description: http://www.farnell.com/datasheets/2053000.pdf?src-supplier=Element14
footprint WDFN8 (WDFN8 3.3x3.3mm)
pins: 1 S, 2 S, 3 S, 4 G, 5-8 D

## NVTFS5C680NLTAG
designator Q?
Single N-Channel Power MOSFET 60V, 20A, 26.5mΩ 1500 / Tape & Reel; Manufacturer: onsemi; Manufacturer Lifecycle Status: ACTIVE; Continuous Drain Current (ID): 7.82A; Drain to Source Resistance: 42.5mΩ; Gate to Source Voltage (Vgs): 20V; Max Junction Temperature (Tj): 175°C; Number of Channels: 1; Power Dissipation: 3W; Turn-Off Delay Time: 13ns; Turn-On Delay Time: 6.5ns; Supplier 1: DigiKey; Supplier Part Number 1: NVTFS5C680NLTAGOSCT-ND; Supplier: DigiKey; Supplier Part Number: NVTFS5C680NLTAGOSCT-ND; Manufacturer Part Number: NVTFS5C680NLTAG; RoHS: Compliant; Category: MOSFETs; Stock: 6169; Pricing: 1=1,18, 10=0,765, 100=0,5641, 500=0,44842 (USD); China RoHS: Non-Compliant; Drain to Source Breakdown Voltage: 60V; Drain to Source Voltage (Vdss): 60V; Height: 800µm; Lifecycle Status: Production; Max Operating Temperature: 175°C; Min Breakdown Voltage: 60V; Min Operating Temperature: -55°C; Number of Elements: 1; Number of Terminals: 5; REACH SVHC: No; Schedule B: 8541290080; ComponentLink1URL: https://datasheet.octopart.com:443/NVTFS5C680NLTAG-onsemi-datasheet-156001634.pdf?src-supplier=IHS; ComponentLink1Description: https://datasheet.octopart.com:443/NVTFS5C680NLTAG-onsemi-datasheet-156001634.pdf?src-supplier=IHS; ComponentLink2URL: https://sigma.octopart.com:443/138898242/technical_drawing/onsemi-NVTFS5C680NLTAG.pdf?src-supplier=Upverter; ComponentLink2Description: https://sigma.octopart.com:443/138898242/technical_drawing/onsemi-NVTFS5C680NLTAG.pdf?src-supplier=Upverter; ComponentLink3URL: https://datasheet.octopart.com:443/NVTFS5C680NLTAG-ON-Semiconductor-datasheet-139013615.pdf?src-supplier=Electro+Sonic; ComponentLink3Description: https://datasheet.octopart.com:443/NVTFS5C680NLTAG-ON-Semiconductor-datasheet-139013615.pdf?src-supplier=Electro+Sonic; ComponentLink4URL: https://datasheet.octopart.com:443/NVTFS5C680NLTAG-ON-Semiconductor-datasheet-68307394.pdf?src-supplier=onsemi; ComponentLink4Description: https://datasheet.octopart.com:443/NVTFS5C680NLTAG-ON-Semiconductor-datasheet-68307394.pdf?src-supplier=onsemi; ComponentLink5URL: http://sigma.octopart.com:80/150630591/rohs_statement/ON-Semiconductor-NVTFS5C680NLTAG.pdf?src-supplier=Compliance+Statements; ComponentLink5Description: http://sigma.octopart.com:80/150630591/rohs_statement/ON-Semiconductor-NVTFS5C680NLTAG.pdf?src-supplier=Compliance+Statements; ComponentLink6URL: http://sigma.octopart.com:80/reach_statement/ON-Semiconductor-company-79.pdf?src-supplier=Compliance+Statements; ComponentLink6Description: http://sigma.octopart.com:80/reach_statement/ON-Semiconductor-company-79.pdf?src-supplier=Compliance+Statements; ComponentLink7URL: https://octopart.com:443/opatz8j6/c1?t=ArcHL9UVBtlnzVgGHBfE7a_h9s1YCUtyd8EDdrHC2PTUW_HO2F9quOn9Y5qfsPY5s_Zyk4nkk7QJz5arH-e3I-c2JgQX-GlOuwlXsGSnoa6izDJP0gTMAvJ8KuOelPQbjo9v-EU_jN9aE1yl8YbPbWwLo9E9kCztZ3rs5Vyvwbjj-VOdYIXD0ftJl_GLyja-EMH9toYYVXBKtPNt2Lro4vR8BXDVQfe8Ht8DVJ2QjP2pCJLbDj8K3xepgBTNK6OdPZyth80JI6fQIq3nxLqte9py_zn8nzyBerFRCf-pzXU6IvNc9lywlFQuURd4V-3OjG2V8Rdw4KbLbxH9GkL7AtSek62PVATgeyEUN7Kc7PnaZg&src-supplier=Compliance+Statements; ComponentLink7Description: https://octopart.com:443/opatz8j6/c1?t=ArcHL9UVBtlnzVgGHBfE7a_h9s1YCUtyd8EDdrHC2PTUW_HO2F9quOn9Y5qfsPY5s_Zyk4nkk7QJz5arH-e3I-c2JgQX-GlOuwlXsGSnoa6izDJP0gTMAvJ8KuOelPQbjo9v-EU_jN9aE1yl8YbPbWwLo9E9kCztZ3rs5Vyvwbjj-VOdYIXD0ftJl_GLyja-EMH9toYYVXBKtPNt2Lro4vR8BXDVQfe8Ht8DVJ2QjP2pCJLbDj8K3xepgBTNK6OdPZyth80JI6fQIq3nxLqte9py_zn8nzyBerFRCf-pzXU6IvNc9lywlFQuURd4V-3OjG2V8Rdw4KbLbxH9GkL7AtSek62PVATgeyEUN7Kc7PnaZg&src-supplier=Compliance+Statements; ComponentLink8URL: https://octopart.com:443/opatz8j6/c1?t=h028ATufzzsJULRA869P7SZdp-Wpt_KrC2RqInijH6hskcWW-EmMUlj6YmKXcR85Vsly7Dd6lRvBMnUsxBjqw7HuW468MJPRVMESG6AfSRrF3fc7wNxoHbnHWYy9p2S6yWE15ZT_C0ePY1I1Pr14F-IoE6e51Hjtjgr99Pia2upkj5Jfun9iC7CH3qbYtMOLk3beEKJxRaW3SuxADs7wRVUmiQJqOo6xhMZPamc0Oi3UyJXbS9Rbe3KTkBNR1sUivbaF_XMKqIelNr3QkLPL63EEAlWLzFVl9DhtTJXBY2-FGDPyIlfr2SKAZRmrwAymqeP9bpEpz5eT7QN5mmgp67ypEV-l3fKOUDoZ6FfOr0nO474&src-supplier=Compliance+Statements; ComponentLink8Description: https://octopart.com:443/opatz8j6/c1?t=h028ATufzzsJULRA869P7SZdp-Wpt_KrC2RqInijH6hskcWW-EmMUlj6YmKXcR85Vsly7Dd6lRvBMnUsxBjqw7HuW468MJPRVMESG6AfSRrF3fc7wNxoHbnHWYy9p2S6yWE15ZT_C0ePY1I1Pr14F-IoE6e51Hjtjgr99Pia2upkj5Jfun9iC7CH3qbYtMOLk3beEKJxRaW3SuxADs7wRVUmiQJqOo6xhMZPamc0Oi3UyJXbS9Rbe3KTkBNR1sUivbaF_XMKqIelNr3QkLPL63EEAlWLzFVl9DhtTJXBY2-FGDPyIlfr2SKAZRmrwAymqeP9bpEpz5eT7QN5mmgp67ypEV-l3fKOUDoZ6FfOr0nO474&src-supplier=Compliance+Statements
footprint WDFN8 (WDFN8 3.3x3.3mm)
pins: 1 S, 2 S, 3 S, 4 G, 5-8 D

## NVTFS9D6P04M8LTAG
designator Q?
MOSFET P-CH 40V 13A/64A 8WDFN; Manufacturer: ON Semiconductor; Continuous Drain Current (ID): -13A; Drain to Source Breakdown Voltage: -40V; Drain to Source Resistance: 7.5mR; Gate to Source Voltage (Vgs): 20V; Number of Channels: 1NUMBER; Power Dissipation: 3.2W; Turn-Off Delay Time: 74.6ns; Turn-On Delay Time: 12.6ns; Supplier: Digikey; Supplier Part Number: 488-NVTFS9D6P04M8LTAGCT-ND; Manufacturer Part Number: NVTFS9D6P04M8LTAG; RoHS: Yes; Category: MOSFETs; Stock: 17101; Pricing: 1=1,94, 10=1,253, 100=0,8468, 500=0,67282 (USD); Min Operating Temperature: -55°C; Max Operating Temperature: 175°C; Drain to Source Voltage (Vdss): -40V; Height: 800um; Supplier 1: Digikey; Supplier Part Number 1: 488-NVTFS9D6P04M8LTAGCT-ND
footprint WDFN8 (WDFN8 3.3x3.3mm)
pins: 1 S, 2 S, 3 S, 4 G, 5-8 D

## NX6008NBKR
designator Q?
NX6008NBK/SOT23/TO-236AB; Manufacturer: Nexperia; ComponentLink1URL: https://assets.nexperia.com/documents/data-sheet/BAT54_SER.pdf?src-supplier=Digi-Key; ComponentLink1Description: https://assets.nexperia.com/documents/data-sheet/BAT54_SER.pdf?src-supplier=Digi-Key; ComponentLink2URL: https://datasheet.ciiva.com/5836/276131-5836616.pdf?src-supplier=Farnell; ComponentLink2Description: https://datasheet.ciiva.com/5836/276131-5836616.pdf?src-supplier=Farnell; Supplier: Digikey; Supplier Part Number: 1727-NX6008NBKRCT-ND; Manufacturer Part Number: NX6008NBKR; RoHS: No; Category: MOSFETs; Stock: 4517; Pricing: 1=0,18, 10=0,111, 100=0,041, 500=0,04, 1000=0,037 (USD); ComponentLink3URL: https://datasheet.octopart.com/NX6008NBKR-Nexperia-datasheet-155341956.pdf?src-supplier=Future+Electronics; ComponentLink3Description: https://datasheet.octopart.com/NX6008NBKR-Nexperia-datasheet-155341956.pdf?src-supplier=Future+Electronics; Supplier 1: Digikey; Supplier Part Number 1: 1727-NX6008NBKRCT-ND
footprint SOT-23 (SOT23, 3-Leads, Body 2.92x1.3mm, Pitch 0.95mm)
pins: 1 G, 2 S, 3 D

## PMEG3010ER,115
designator D?
DIODE SCHOTTKY 30V 1A SOD123W; Manufacturer: Nexperia; Value: 170pF; Max Forward Surge Current (Ifsm): 50A; Max Reverse Current: 600uA; Supplier: Digikey; Supplier Part Number: 1727-5201-1-ND; Manufacturer Part Number: PMEG3010ER,115; RoHS: Yes; Category: Rectifier Diodes; Stock: 65699; Pricing: 1=0,19, 10=0,134, 100=0,1027, 500=0,08982, 1000=0,0834 (USD); Max Operating Temperature: 150°C; Packaging: 10Packaging; Forward Current: 1A; Max Repetitive Reverse Voltage (Vrrm): 30V; Reverse Voltage: 30V; Height: 1.1mm; ComponentLink1URL: http://www.farnell.com/datasheets/1383345.pdf?src-supplier=Farnell; ComponentLink1Description: http://www.farnell.com/datasheets/1383345.pdf?src-supplier=Farnell; ComponentLink2URL: https://assets.nexperia.com/documents/data-sheet/PMEG3010ER.pdf?src-supplier=Digikey; ComponentLink2Description: https://assets.nexperia.com/documents/data-sheet/PMEG3010ER.pdf?src-supplier=Digikey; ComponentLink3URL: https://datasheet.octopart.com/PMEG3010ER%2C115-Nexperia-datasheet-86648467.pdf?src-supplier=TME; ComponentLink3Description: https://datasheet.octopart.com/PMEG3010ER%2C115-Nexperia-datasheet-86648467.pdf?src-supplier=TME; Supplier 1: Digikey; Supplier Part Number 1: 1727-5201-1-ND
footprint SOD-123 (SOD, 2-Leads, Body 2.69x1.6mm)
pins: 1, 2